# EAGLE library part SWD_TARGET_20PIN_SAMTEC_TST-110-01-L-D (library Connector_SWD)
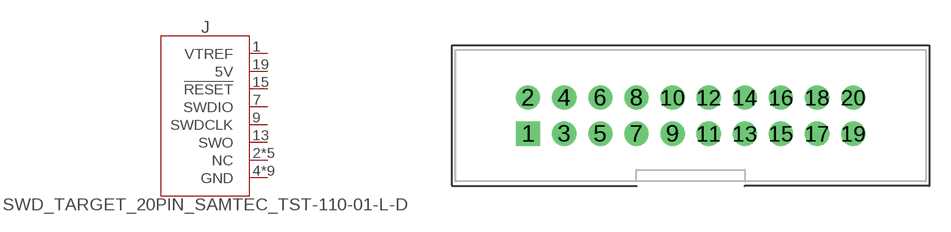
[diagram p3: symbol with the pads of SAMTEC_TST-110-01-L-D; footprint SAMTEC_TST-110-01-L-D]

Designator prefix J

## SWD_TARGET_20PIN_SAMTEC_TST-110-01-L-D  [SAMTEC_TST-110-01-L-D]
1  VTREF  pwr
2  NC  nc
3  NC  nc
4  GND  pas
5  NC  nc
6  GND  pas
7  SWDIO
8  GND  pas
9  SWDCLK  out
10  GND  pas
11  NC  nc
12  GND  pas
13  SWO  in
14  GND  pas
15  !RESET  out
16  GND  pas
17  NC  nc
18  GND  pas
19  5V  pas
20  GND  pas

## Footprint SAMTEC_TST-110-01-L-D (pad centres in mm)
drill 1 pad 1.7 square: 1 -11.43,-1.27
drill 1 pad 1.7: 2 -11.43,1.27; 3 -8.89,-1.27; 4 -8.89,1.27; 5 -6.35,-1.27; 6 -6.35,1.27; 7 -3.81,-1.27; 8 -3.81,1.27; 9 -1.27,-1.27; 10 -1.27,1.27; 11 1.27,-1.27; 12 1.27,1.27; 13 3.81,-1.27; 14 3.81,1.27; 15 6.35,-1.27; 16 6.35,1.27; 17 8.89,-1.27; 18 8.89,1.27; 19 11.43,-1.27; 20 11.43,1.27